# EAGLE library part C-GRID-15 (library con-molex)
CONNECTOR wire to board 2.54 mm (0.100") pitch header
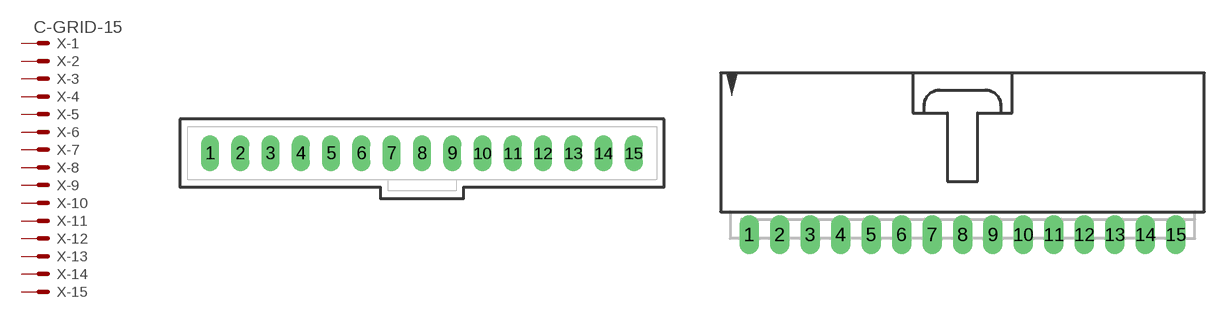
[diagram p98: symbol with the pads of 70543-15; footprints 70543-15, 70553-15]

Designator prefix X; gates -1=MV -2=M -3=M -4=M -5=M -6=M -7=M -8=M -9=M -10=M -11=M -12=M -13=M -14=M -15=M

## C-GRID-15-70543 (OC_FARNELL: unknown; OC_NEWARK: unknown)  [70543-15]
1  -1:S  pas
2  -2:S  pas
3  -3:S  pas
4  -4:S  pas
5  -5:S  pas
6  -6:S  pas
7  -7:S  pas
8  -8:S  pas
9  -9:S  pas
10  -10:S  pas
11  -11:S  pas
12  -12:S  pas
13  -13:S  pas
14  -14:S  pas
15  -15:S  pas

## C-GRID-15-70553 (OC_FARNELL: unknown; OC_NEWARK: unknown)  [70553-15]
Pads as for 70543-15

## C-GRID-15-74099 (OC_FARNELL: unknown; OC_NEWARK: unknown)  [74099-15]
Pads as for 70543-15

## C-GRID-15-15-91 (OC_FARNELL: unknown; OC_NEWARK: unknown)  [15-91-15]
Pads as for 70543-15

## Footprint 70543-15 (pad centres in mm)
C-Grid SL Connector vertical, 15 pin
drill 1.016 long: 1 -17.78,0; 2 -15.24,0; 3 -12.7,0; 4 -10.16,0; 5 -7.62,0; 6 -5.08,0; 7 -2.54,0; 8 0,0; 9 2.54,0; 10 5.08,0; 11 7.62,0; 12 10.16,0; 13 12.7,0; 14 15.24,0; 15 17.78,0

## Footprint 70553-15 (pad centres in mm)
C-Grid SL Connector right angle, 15 pin
drill 1.092 long: 1 -17.78,-7.62; 2 -15.24,-7.62; 3 -12.7,-7.62; 4 -10.16,-7.62; 5 -7.62,-7.62; 6 -5.08,-7.62; 7 -2.54,-7.62; 8 0,-7.62; 9 2.54,-7.62; 10 5.08,-7.62; 11 7.62,-7.62; 12 10.16,-7.62; 13 12.7,-7.62; 14 15.24,-7.62; 15 17.78,-7.62

## Footprint 74099-15 (pad centres in mm)
C-Grid SL Connector vertical SMD, 15 pin
smd 1.27 x 3.175: 1 -17.78,-2.223; 2 -15.24,2.223; 3 -12.7,-2.223; 4 -10.16,2.223; 5 -7.62,-2.223; 6 -5.08,2.223; 7 -2.54,-2.223; 8 0,2.223; 9 2.54,-2.223; 10 5.08,2.223; 11 7.62,-2.223; 12 10.16,2.223; 13 12.7,-2.223; 14 15.24,2.223; 15 17.78,-2.223

## Footprint 15-91-15 (pad centres in mm)
C-Grid SL Connector right angle SMD, 15 pin
smd 1.651 x 5.334: 1 -17.78,-10.795; 2 -15.24,-10.795; 3 -12.7,-10.795; 4 -10.16,-10.795; 5 -7.62,-10.795; 6 -5.08,-10.795; 7 -2.54,-10.795; 8 0,-10.795; 9 2.54,-10.795; 10 5.08,-10.795; 11 7.62,-10.795; 12 10.16,-10.795; 13 12.7,-10.795; 14 15.24,-10.795; 15 17.78,-10.795
hole 3.404 at -19.177,0.838
hole 3.404 at 19.177,0.838